# EAGLE library part BQ76930 (library misc)
6 to 10-Series Cell Li-Ion and Li-Phosphate Battery Monitor (bq76940 Family)
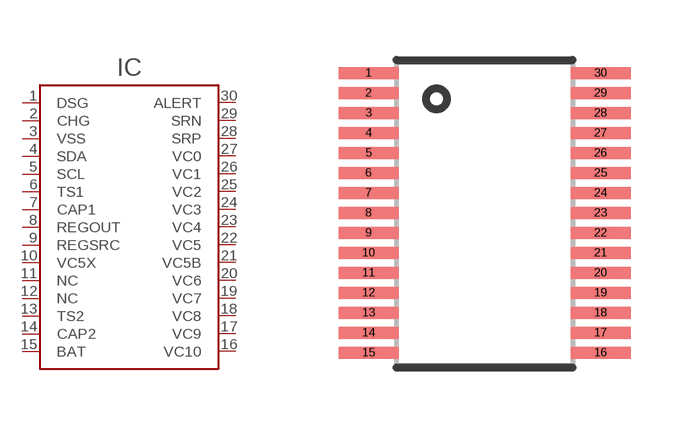
[diagram p97: symbol with the pads of TSSOP30; footprint TSSOP30]

Designator prefix IC

## BQ76930 (LCSC#: C2870190; MANF: Texas Instruments; MANF#: BQ7693000DBT)  [TSSOP30]
1  DSG
2  CHG
3  VSS
4  SDA
5  SCL
6  TS1
7  CAP1
8  REGOUT
9  REGSRC
10  VC5X
11  NC
12  NC
13  TS2
14  CAP2
15  BAT
16  VC10
17  VC9
18  VC8
19  VC7
20  VC6
21  VC5B
22  VC5
23  VC4
24  VC3
25  VC2
26  VC1
27  VC0
28  SRP
29  SRN
30  ALERT

## Footprint TSSOP30 (pad centres in mm)
smd 1.5 x 0.3: 1 -2.9,3.5; 2 -2.9,3; 3 -2.9,2.5; 4 -2.9,2; 5 -2.9,1.5; 6 -2.9,1; 7 -2.9,0.5; 8 -2.9,0; 9 -2.9,-0.5; 10 -2.9,-1; 11 -2.9,-1.5; 12 -2.9,-2; 13 -2.9,-2.5; 14 -2.9,-3; 15 -2.9,-3.5; 16 2.9,-3.5; 17 2.9,-3; 18 2.9,-2.5; 19 2.9,-2; 20 2.9,-1.5; 21 2.9,-1; 22 2.9,-0.5; 23 2.9,0; 24 2.9,0.5; 25 2.9,1; 26 2.9,1.5; 27 2.9,2; 28 2.9,2.5; 29 2.9,3; 30 2.9,3.5